# Altium footprint library ABM11.PCBLIB: 2 footprints
Each footprint in its own frame and in the unit in brackets; x right, y up, seen from the top. Pads: shape width x height; smd on the part's side, far side on the other; paste and mask are expansions set on the pad; w line width, h text height; cw(c..) or ccw(c..) is an arc to the next point about the centre after c.
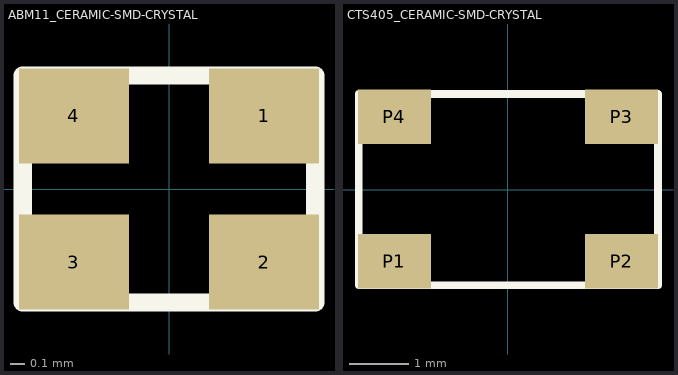
[diagram p0: the footprints below, top view; thin cyan lines are the x and y axes]

## ABM11_CERAMIC-SMD-CRYSTAL [mil]
pads (4):
  rect 30x26 smd: 1(26,20) 2(26,-20) 3(-26,-20) 4(-26,20)
Top Overlay:
  lines w5: -40,-31 -40,31 40,31 40,-31 -40,-31
Mechanical 2:
Mechanical 4:

## CTS405_CERAMIC-SMD-CRYSTAL [mil]
pads (4):
  rect 48x36 smd: P1(-74.8,-47.24) P2(75,-47.24) P3(75,48) P4(-74.8,48)
Top Overlay:
  lines w5: -98.43,-62.99 -98.43,63 99,63 99,-62.99 -98.43,-62.99
Mechanical 2:
Mechanical 4: